# Altium schematic symbol library Resistor_LVK12.Schlib: 1 symbol
Pins are listed as number, name and electrical type; pins without a type are passive.

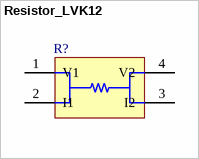
[diagram p0: symbol Resistor_LVK12]

## Resistor_LVK12
designator R?
Resistor
pins: 1 V1, 2 I1, 3 I2, 4 V2